# Altium integrated library TI Interface 8-Bit Line Transceiver.IntLib: 997 symbols (part 5 of 21)
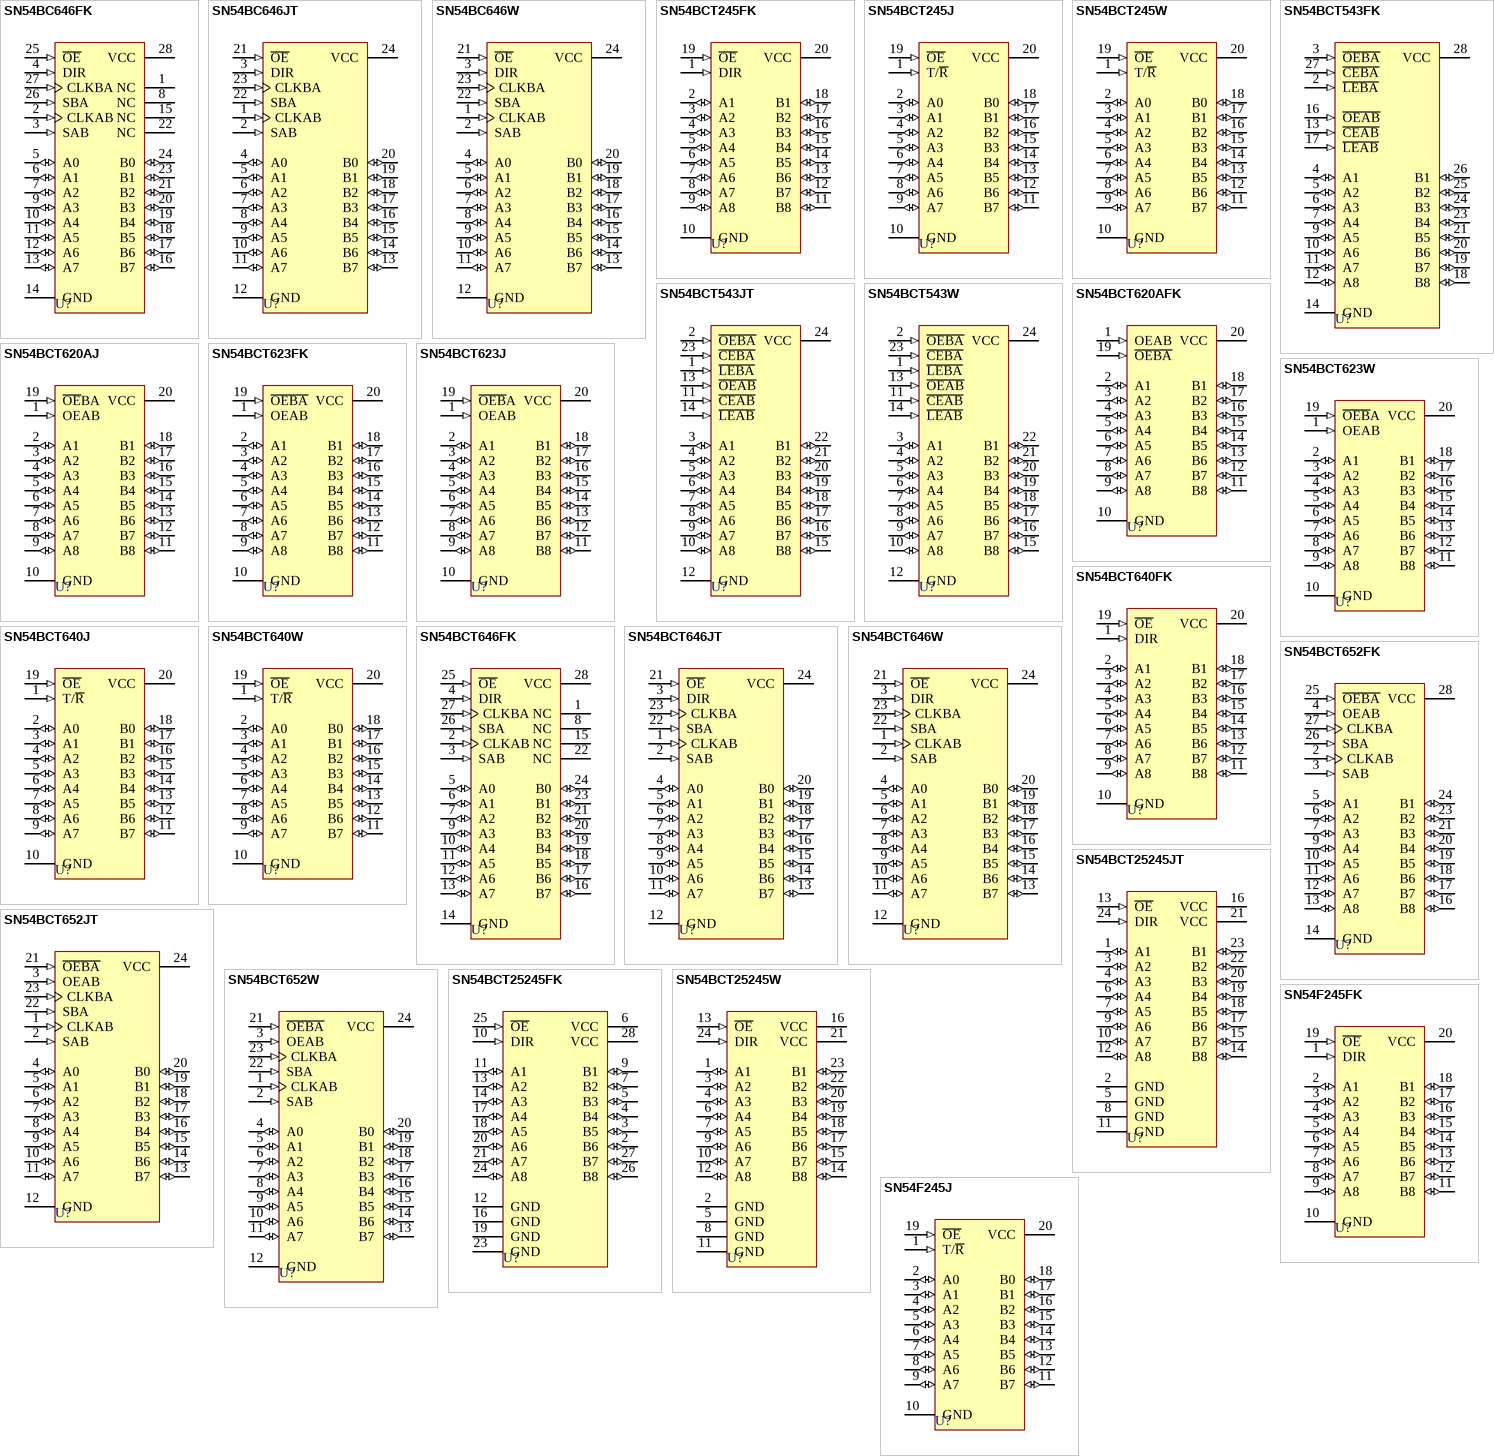
[diagram p35: symbols SN54BC646FK to SN54F245J]

## SN54BCT652FK
designator U?
Octal Bus Transceiver and Register with 3-State Outputs; Note: Pins 1, 8, 15 and 22 are not connected; Published: 8-Jun-2000; LatestRevisionDate: 17-Jul-2002; LatestRevisionNote: Re-released for DXP Platform.; DatasheetVersion: Nov-1993; PackageVersion: 1998; PackageReference: FK028; Publisher: Altium Limited; PackageDescription: Leadless Chip Carrier; 28 Terminals; Body 11.4 x 11.4 mm; ComponentLink1Description: Manufacturer Link; ComponentLink1URL: http://www.ti.com/
footprint FK028 (Leadless Chip Carrier; 28 Terminals; Body 11.4 x 11.4 mm)
signal-integrity model SN54BCT652FK
pins: 2 CLKAB (in), 3 SAB (in), 4 OEAB (in), 5 A1 (io), 6 A2 (io), 7 A3 (io), 9 A4 (io), 10 A5 (io), 11 A6 (io), 12 A7 (io), 13 A8 (io), 14 GND (power), 16 B8 (io), 17 B7 (io), 18 B6 (io), 19 B5 (io), 20 B4 (io), 21 B3 (io), 23 B2 (io), 24 B1 (io), 25 ~{OEBA} (in), 26 SBA (in), 27 CLKBA (in), 28 VCC (power)

## SN54BCT652JT
designator U?
Octal Bus Transceiver and Register with 3-State Outputs; Published: 8-Jun-2000; LatestRevisionDate: 04-Mar-2005; LatestRevisionNote: Stylized 3D Model Added.; DatasheetVersion: Nov-1993; PackageVersion: Jan-1997; PackageReference: JT024; Publisher: Altium Limited; PackageDescription: DIP; 24 Leads; Row Spacing 7.62 mm; Pitch 2.54 mm; Code_JEDEC: MS-001-AF; ComponentLink1Description: Manufacturer Link; ComponentLink1URL: http://www.ti.com/
footprint JT024 (DIP; 24 Leads; Row Spacing 7.62 mm; Pitch 2.54 mm)
3D model JT024 (DIP; 24 Leads; Row Spacing 7.62 mm; Pitch 2.54 mm)
signal-integrity model SN54BCT652JT
pins: 1 CLKAB (in), 2 SAB (in), 3 OEAB (in), 4 A0 (io), 5 A1 (io), 6 A2 (io), 7 A3 (io), 8 A4 (io), 9 A5 (io), 10 A6 (io), 11 A7 (io), 12 GND (power), 13 B7 (io), 14 B6 (io), 15 B5 (io), 16 B4 (io), 17 B3 (io), 18 B2 (io), 19 B1 (io), 20 B0 (io), 21 ~{OEBA} (in), 22 SBA (in), 23 CLKBA (in), 24 VCC (power)

## SN54BCT652W
designator U?
Octal Bus Transceiver and Register with 3-State Outputs; Published: 8-Jun-2000; LatestRevisionDate: 04-Mar-2005; LatestRevisionNote: Stylized 3D Model Added.; DatasheetVersion: Nov-1993; PackageVersion: Oct-1994; PackageReference: W024; Publisher: Altium Limited; PackageDescription: DFP; 24 Leads; Body 16.3 x 9.5 mm (LxW max); Pitch 1.27 mm; Code_JEDEC: MO-070-AD; ComponentLink1Description: Manufacturer Link; ComponentLink1URL: http://www.ti.com/
footprint W024 (DFP; 24 Leads; Body 16.3 x 9.5 mm (LxW max); Pitch 1.27 mm)
3D model W024 (DFP; 24 Leads; Body 16.3 x 9.5 mm (LxW max); Pitch 1.27 mm)
signal-integrity model SN54BCT652W
pins: 1 CLKAB (in), 2 SAB (in), 3 OEAB (in), 4 A0 (io), 5 A1 (io), 6 A2 (io), 7 A3 (io), 8 A4 (io), 9 A5 (io), 10 A6 (io), 11 A7 (io), 12 GND (power), 13 B7 (io), 14 B6 (io), 15 B5 (io), 16 B4 (io), 17 B3 (io), 18 B2 (io), 19 B1 (io), 20 B0 (io), 21 ~{OEBA} (in), 22 SBA (in), 23 CLKBA (in), 24 VCC (power)

## SN54BCT25245FK
designator U?
25-Ohm Octal Bus Transceiver with 3-State Outputs; Note: Pins 1, 8, 15 and 22 are not connected; Published: 8-Jun-2000; LatestRevisionDate: 17-Jul-2002; LatestRevisionNote: Re-released for DXP Platform.; DatasheetVersion: Apr-1994; PackageVersion: 1998; PackageReference: FK028; Publisher: Altium Limited; PackageDescription: Leadless Chip Carrier; 28 Terminals; Body 11.4 x 11.4 mm; ComponentLink1Description: Manufacturer Link; ComponentLink1URL: http://www.ti.com/
footprint FK028 (Leadless Chip Carrier; 28 Terminals; Body 11.4 x 11.4 mm)
signal-integrity model SN54BCT25245FK
pins: 2 B6 (io), 3 B5 (io), 4 B4 (io), 5 B3 (io), 6 VCC (power), 7 B2 (io), 9 B1 (io), 10 DIR (in), 11 A1 (io), 12 GND (power), 13 A2 (io), 14 A3 (io), 16 GND (power), 17 A4 (io), 18 A5 (io), 19 GND (power), 20 A6 (io), 21 A7 (io), 23 GND (power), 24 A8 (io), 25 ~{OE} (in), 26 B8 (io), 27 B7 (io), 28 VCC (power)

## SN54BCT25245JT
designator U?
25-Ohm Octal Bus Transceiver with 3-State Outputs; Published: 8-Jun-2000; LatestRevisionDate: 04-Mar-2005; LatestRevisionNote: Stylized 3D Model Added.; DatasheetVersion: Apr-1994; PackageVersion: Jan-1997; PackageReference: JT024; Publisher: Altium Limited; PackageDescription: DIP; 24 Leads; Row Spacing 7.62 mm; Pitch 2.54 mm; Code_JEDEC: MS-001-AF; ComponentLink1Description: Manufacturer Link; ComponentLink1URL: http://www.ti.com/
footprint JT024 (DIP; 24 Leads; Row Spacing 7.62 mm; Pitch 2.54 mm)
3D model JT024 (DIP; 24 Leads; Row Spacing 7.62 mm; Pitch 2.54 mm)
signal-integrity model SN54BCT25245JT
pins: 1 A1 (io), 2 GND (power), 3 A2 (io), 4 A3 (io), 5 GND (power), 6 A4 (io), 7 A5 (io), 8 GND (power), 9 A6 (io), 10 A7 (io), 11 GND (power), 12 A8 (io), 13 ~{OE} (in), 14 B8 (io), 15 B7 (io), 16 VCC (power), 17 B6 (io), 18 B5 (io), 19 B4 (io), 20 B3 (io), 21 VCC (power), 22 B2 (io), 23 B1 (io), 24 DIR (in)

## SN54BCT25245W
designator U?
25-Ohm Octal Bus Transceiver with 3-State Outputs; Published: 8-Jun-2000; LatestRevisionDate: 04-Mar-2005; LatestRevisionNote: Stylized 3D Model Added.; DatasheetVersion: Apr-1994; PackageVersion: Oct-1994; PackageReference: W024; Publisher: Altium Limited; PackageDescription: DFP; 24 Leads; Body 16.3 x 9.5 mm (LxW max); Pitch 1.27 mm; Code_JEDEC: MO-070-AD; ComponentLink1Description: Manufacturer Link; ComponentLink1URL: http://www.ti.com/
footprint W024 (DFP; 24 Leads; Body 16.3 x 9.5 mm (LxW max); Pitch 1.27 mm)
3D model W024 (DFP; 24 Leads; Body 16.3 x 9.5 mm (LxW max); Pitch 1.27 mm)
signal-integrity model SN54BCT25245W
pins: 1 A1 (io), 2 GND (power), 3 A2 (io), 4 A3 (io), 5 GND (power), 6 A4 (io), 7 A5 (io), 8 GND (power), 9 A6 (io), 10 A7 (io), 11 GND (power), 12 A8 (io), 13 ~{OE} (in), 14 B8 (io), 15 B7 (io), 16 VCC (power), 17 B6 (io), 18 B5 (io), 19 B4 (io), 20 B3 (io), 21 VCC (power), 22 B2 (io), 23 B1 (io), 24 DIR (in)

## SN54F245FK
designator U?
Octal Bus Transceiver with 3-State Outputs; Published: 8-Jun-2000; LatestRevisionDate: 17-Jul-2002; LatestRevisionNote: Re-released for DXP Platform.; DatasheetVersion: Oct-1993; PackageVersion: 1998; PackageReference: FK020; Publisher: Altium Limited; PackageDescription: Leadless Chip Carrier; 20 Terminals; Body 8.9 x 8.9 mm; ComponentLink1Description: Manufacturer Link; ComponentLink1URL: http://www.ti.com/
footprint FK020 (Leadless Chip Carrier; 20 Terminals; Body 8.9 x 8.9 mm)
simulation model SN74F245 (SIMCODE)
signal-integrity model SN54F245FK
pins: 1 DIR (in), 2 A1 (io), 3 A2 (io), 4 A3 (io), 5 A4 (io), 6 A5 (io), 7 A6 (io), 8 A7 (io), 9 A8 (io), 10 GND (power), 11 B8 (io), 12 B7 (io), 13 B6 (io), 14 B5 (io), 15 B4 (io), 16 B3 (io), 17 B2 (io), 18 B1 (io), 19 ~{OE} (in), 20 VCC (power)

## SN54F245J
designator U?
Octal Bus Transceiver with 3-State Outputs; Published: 8-Jun-2000; LatestRevisionDate: 04-Mar-2005; LatestRevisionNote: Stylized 3D Model Added.; DatasheetVersion: Oct-1993; PackageVersion: Jun-1999; PackageReference: J020; Publisher: Altium Limited; PackageDescription: DIP; 20 Leads; Row Spacing 7.62 mm; Pitch 2.54 mm; ComponentLink1Description: Manufacturer Link; ComponentLink1URL: http://www.ti.com/; ComponentLink2Description: Datasheet; ComponentLink2URL: http://www-s.ti.com/sc/ds/sn54f245.pdf
footprint J020 (DIP; 20 Leads; Row Spacing 7.62 mm; Pitch 2.54 mm)
3D model J020 (DIP; 20 Leads; Row Spacing 7.62 mm; Pitch 2.54 mm)
simulation model SN74F245 (SIMCODE)
signal-integrity model SN54F245J
pins: 1 T/~{R} (in), 2 A0 (io), 3 A1 (io), 4 A2 (io), 5 A3 (io), 6 A4 (io), 7 A5 (io), 8 A6 (io), 9 A7 (io), 10 GND (power), 11 B7 (io), 12 B6 (io), 13 B5 (io), 14 B4 (io), 15 B3 (io), 16 B2 (io), 17 B1 (io), 18 B0 (io), 19 ~{OE} (in), 20 VCC (power)

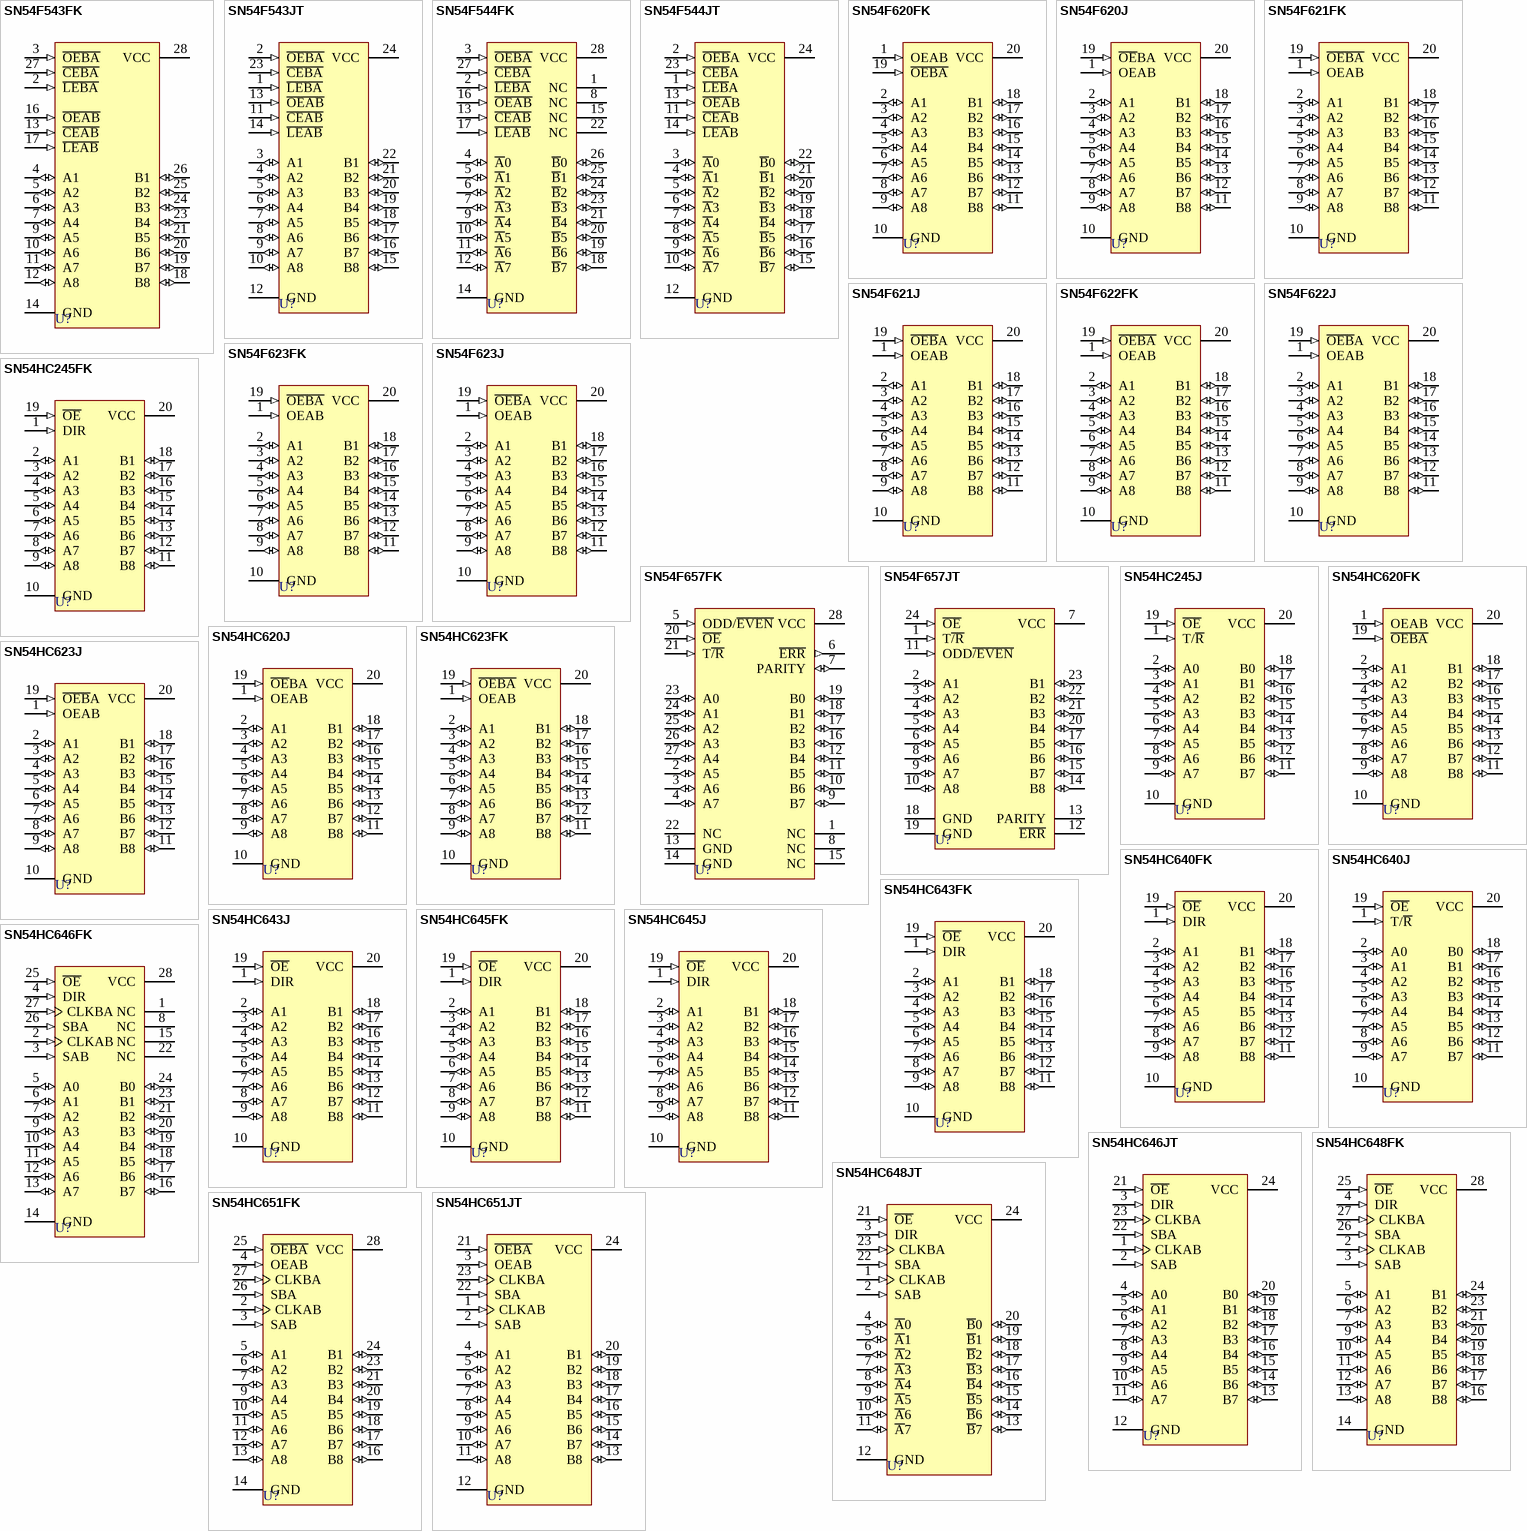
[diagram p7: symbols SN54F543FK to SN54HC651JT]

## SN54F543FK
designator U?
Octal Registered Transceiver with 3-State Outputs; Note: Pins 1, 8, 15 and 22 are not connected; Published: 8-Jun-2000; LatestRevisionDate: 17-Jul-2002; LatestRevisionNote: Re-released for DXP Platform.; DatasheetVersion: Jan-1989; PackageVersion: 1998; PackageReference: FK028D; Publisher: Altium Limited; PackageDescription: Leadless Chip Carrier; 28 Terminals; Body 11.4 x 11.4 mm; ComponentLink1Description: Manufacturer Link; ComponentLink1URL: http://www.ti.com/
footprint FK028D (Leadless Chip Carrier; 28 Terminals; Body 11.4 x 11.4 mm)
signal-integrity model SN54F543FK
pins: 2 ~{LEBA} (in), 3 ~{OEBA} (in), 4 A1 (io), 5 A2 (io), 6 A3 (io), 7 A4 (io), 9 A5 (io), 10 A6 (io), 11 A7 (io), 12 A8 (io), 13 ~{CEAB} (in), 14 GND (power), 16 ~{OEAB} (in), 17 ~{LEAB} (in), 18 B8 (io), 19 B7 (io), 20 B6 (io), 21 B5 (io), 23 B4 (io), 24 B3 (io), 25 B2 (io), 26 B1 (io), 27 ~{CEBA} (in), 28 VCC (power)

## SN54F543JT
designator U?
Octal Registered Transceiver with 3-State Outputs; Published: 8-Jun-2000; LatestRevisionDate: 04-Mar-2005; LatestRevisionNote: Stylized 3D Model Added.; DatasheetVersion: Jan-1989; PackageVersion: Jan-1997; PackageReference: JT024D; Publisher: Altium Limited; PackageDescription: DIP; 24 Leads; Row Spacing 7.62 mm; Pitch 2.54 mm; Code_JEDEC: MS-001-AF; ComponentLink1Description: Manufacturer Link; ComponentLink1URL: http://www.ti.com/
footprint JT024D (DIP; 24 Leads; Row Spacing 7.62 mm; Pitch 2.54 mm)
3D model JT024 (DIP; 24 Leads; Row Spacing 7.62 mm; Pitch 2.54 mm)
signal-integrity model SN54F543JT
pins: 1 ~{LEBA} (in), 2 ~{OEBA} (in), 3 A1 (io), 4 A2 (io), 5 A3 (io), 6 A4 (io), 7 A5 (io), 8 A6 (io), 9 A7 (io), 10 A8 (io), 11 ~{CEAB} (in), 12 GND (power), 13 ~{OEAB} (in), 14 ~{LEAB} (in), 15 B8 (io), 16 B7 (io), 17 B6 (io), 18 B5 (io), 19 B4 (io), 20 B3 (io), 21 B2 (io), 22 B1 (io), 23 ~{CEBA} (in), 24 VCC (power)

## SN54F544FK
designator U?
Octal Registered Transceiver with 3-State Outputs; Note: Pins 1, 8, 15 and 22 are not connected; ComponentAvailability: Obsolete; Published: 8-Jun-2000; LatestRevisionDate: 17-Jul-2002; LatestRevisionNote: Re-released for DXP Platform.; DatasheetVersion: Jan-1989; PackageVersion: 1998; PackageReference: FK028D; Publisher: Altium Limited; PackageDescription: Leadless Chip Carrier; 28 Terminals; Body 11.4 x 11.4 mm; ComponentLink1Description: Manufacturer Link; ComponentLink1URL: http://www.ti.com/; ComponentLink2Description: Discontinuation Notice; ComponentLink2URL: http://focus.ti.com/pdfs/mltry/obsolete.pdf
footprint FK028D (Leadless Chip Carrier; 28 Terminals; Body 11.4 x 11.4 mm)
signal-integrity model SN54F544FK
pins: 1 NC, 2 ~{LEBA} (in), 3 ~{OEBA} (in), 4 ~{A}0 (io), 5 ~{A}1 (io), 6 ~{A}2 (io), 7 ~{A}3 (io), 8 NC, 9 ~{A}4 (io), 10 ~{A}5 (io), 11 ~{A}6 (io), 12 ~{A}7 (io), 13 ~{CEAB} (in), 14 GND (power), 15 NC, 16 ~{OEAB} (in), 17 ~{LEAB} (in), 18 ~{B}7 (io), 19 ~{B}6 (io), 20 ~{B}5 (io), 21 ~{B}4 (io), 22 NC, 23 ~{B}3 (io), 24 ~{B}2 (io), 25 ~{B}1 (io), 26 ~{B}0 (io), 27 ~{CEBA} (in), 28 VCC (power)

## SN54F544JT
designator U?
Octal Registered Transceiver with 3-State Outputs; ComponentAvailability: Obsolete; Published: 8-Jun-2000; LatestRevisionDate: 04-Mar-2005; LatestRevisionNote: Stylized 3D Model Added.; DatasheetVersion: Jan-1989; PackageVersion: Jan-1997; PackageReference: JT024D; Publisher: Altium Limited; PackageDescription: DIP; 24 Leads; Row Spacing 7.62 mm; Pitch 2.54 mm; Code_JEDEC: MS-001-AF; ComponentLink1Description: Manufacturer Link; ComponentLink1URL: http://www.ti.com/; ComponentLink2Description: Discontinuation Notice; ComponentLink2URL: http://focus.ti.com/pdfs/mltry/obsolete.pdf
footprint JT024D (DIP; 24 Leads; Row Spacing 7.62 mm; Pitch 2.54 mm)
3D model JT024 (DIP; 24 Leads; Row Spacing 7.62 mm; Pitch 2.54 mm)
signal-integrity model SN54F544JT
pins: 1 ~{LEB}A (in), 2 ~{OEB}A (in), 3 ~{A}0 (io), 4 ~{A}1 (io), 5 ~{A}2 (io), 6 ~{A}3 (io), 7 ~{A}4 (io), 8 ~{A}5 (io), 9 ~{A}6 (io), 10 ~{A}7 (io), 11 ~{CEA}B (in), 12 GND (power), 13 ~{OEA}B (in), 14 ~{LEA}B (in), 15 ~{B}7 (io), 16 ~{B}6 (io), 17 ~{B}5 (io), 18 ~{B}4 (io), 19 ~{B}3 (io), 20 ~{B}2 (io), 21 ~{B}1 (io), 22 ~{B}0 (io), 23 ~{CEB}A (in), 24 VCC (power)

## SN54F620FK
designator U?
Octal Bus transceiver; ComponentAvailability: Obsolete; Published: 8-Jun-2000; LatestRevisionDate: 17-Jul-2002; LatestRevisionNote: Re-released for DXP Platform.; DatasheetVersion: Jan-1989; PackageVersion: 1998; PackageReference: FK020D; Publisher: Altium Limited; PackageDescription: Leadless Chip Carrier; 20 Terminals; Body 8.9 x 8.9 mm; ComponentLink1Description: Manufacturer Link; ComponentLink1URL: http://www.ti.com/; ComponentLink2Description: Discontinuation Notice; ComponentLink2URL: http://focus.ti.com/pdfs/mltry/obsolete.pdf
footprint FK020D (Leadless Chip Carrier; 20 Terminals; Body 8.9 x 8.9 mm)
signal-integrity model SN54F620FK
pins: 1 OEAB (in), 2 A1 (io), 3 A2 (io), 4 A3 (io), 5 A4 (io), 6 A5 (io), 7 A6 (io), 8 A7 (io), 9 A8 (io), 10 GND (power), 11 B8 (io), 12 B7 (io), 13 B6 (io), 14 B5 (io), 15 B4 (io), 16 B3 (io), 17 B2 (io), 18 B1 (io), 19 ~{OEBA} (in), 20 VCC (power)

## SN54F620J
designator U?
Octal Bus transceiver; ComponentAvailability: Obsolete; Published: 8-Jun-2000; LatestRevisionDate: 04-Mar-2005; LatestRevisionNote: Stylized 3D Model Added.; DatasheetVersion: Jan-1989; PackageVersion: Jun-1999; PackageReference: J020D; Publisher: Altium Limited; PackageDescription: DIP; 20 Leads; Row Spacing 7.62 mm; Pitch 2.54 mm; ComponentLink1Description: Manufacturer Link; ComponentLink1URL: http://www.ti.com/; ComponentLink2Description: Discontinuation Notice; ComponentLink2URL: http://focus.ti.com/pdfs/mltry/obsolete.pdf
footprint J020D (DIP; 20 Leads; Row Spacing 7.62 mm; Pitch 2.54 mm)
3D model J020 (DIP; 20 Leads; Row Spacing 7.62 mm; Pitch 2.54 mm)
signal-integrity model SN54F620J
pins: 1 OEAB (in), 2 A1 (io), 3 A2 (io), 4 A3 (io), 5 A4 (io), 6 A5 (io), 7 A6 (io), 8 A7 (io), 9 A8 (io), 10 GND (power), 11 B8 (io), 12 B7 (io), 13 B6 (io), 14 B5 (io), 15 B4 (io), 16 B3 (io), 17 B2 (io), 18 B1 (io), 19 ~{OE}BA (in), 20 VCC (power)

## SN54F621FK
designator U?
Octal Bus Transceiver with Open-Collector Outputs; Published: 8-Jun-2000; LatestRevisionDate: 17-Jul-2002; LatestRevisionNote: Re-released for DXP Platform.; DatasheetVersion: Oct-1993; PackageVersion: 1998; PackageReference: FK020; Publisher: Altium Limited; PackageDescription: Leadless Chip Carrier; 20 Terminals; Body 8.9 x 8.9 mm; ComponentLink1Description: Manufacturer Link; ComponentLink1URL: http://www.ti.com/
footprint FK020 (Leadless Chip Carrier; 20 Terminals; Body 8.9 x 8.9 mm)
signal-integrity model SN54F621FK
pins: 1 OEAB (in), 2 A1 (io), 3 A2 (io), 4 A3 (io), 5 A4 (io), 6 A5 (io), 7 A6 (io), 8 A7 (io), 9 A8 (io), 10 GND (power), 11 B8 (io), 12 B7 (io), 13 B6 (io), 14 B5 (io), 15 B4 (io), 16 B3 (io), 17 B2 (io), 18 B1 (io), 19 ~{OEBA} (in), 20 VCC (power)

## SN54F621J
designator U?
Octal Bus Transceiver with Open-Collector Outputs; ComponentAvailability: Obsolete; Published: 8-Jun-2000; LatestRevisionDate: 04-Mar-2005; LatestRevisionNote: Stylized 3D Model Added.; DatasheetVersion: Oct-1993; PackageVersion: Jun-1999; PackageReference: J020; Publisher: Altium Limited; PackageDescription: DIP; 20 Leads; Row Spacing 7.62 mm; Pitch 2.54 mm; ComponentLink1Description: Manufacturer Link; ComponentLink1URL: http://www.ti.com/; ComponentLink2Description: Discontinuation Notice; ComponentLink2URL: http://focus.ti.com/pdfs/mltry/obsolete.pdf
footprint J020 (DIP; 20 Leads; Row Spacing 7.62 mm; Pitch 2.54 mm)
3D model J020 (DIP; 20 Leads; Row Spacing 7.62 mm; Pitch 2.54 mm)
signal-integrity model SN54F621J
pins: 1 OEAB (in), 2 A1 (io), 3 A2 (io), 4 A3 (io), 5 A4 (io), 6 A5 (io), 7 A6 (io), 8 A7 (io), 9 A8 (io), 10 GND (power), 11 B8 (io), 12 B7 (io), 13 B6 (io), 14 B5 (io), 15 B4 (io), 16 B3 (io), 17 B2 (io), 18 B1 (io), 19 ~{OEB}A (in), 20 VCC (power)

## SN54F622FK
designator U?
Octal Bus transceiver; Published: 8-Jun-2000; LatestRevisionDate: 17-Jul-2002; LatestRevisionNote: Re-released for DXP Platform.; DatasheetVersion: Jan-1989; PackageVersion: 1998; PackageReference: FK020D; Publisher: Altium Limited; PackageDescription: Leadless Chip Carrier; 20 Terminals; Body 8.9 x 8.9 mm; ComponentLink1Description: Manufacturer Link; ComponentLink1URL: http://www.ti.com/
footprint FK020D (Leadless Chip Carrier; 20 Terminals; Body 8.9 x 8.9 mm)
signal-integrity model SN54F622FK
pins: 1 OEAB (in), 2 A1 (io), 3 A2 (io), 4 A3 (io), 5 A4 (io), 6 A5 (io), 7 A6 (io), 8 A7 (io), 9 A8 (io), 10 GND (power), 11 B8 (io), 12 B7 (io), 13 B6 (io), 14 B5 (io), 15 B4 (io), 16 B3 (io), 17 B2 (io), 18 B1 (io), 19 ~{OEBA} (in), 20 VCC (power)

## SN54F622J
designator U?
Octal Bus transceiver; Published: 8-Jun-2000; LatestRevisionDate: 04-Mar-2005; LatestRevisionNote: Stylized 3D Model Added.; DatasheetVersion: Jan-1989; PackageVersion: Jun-1999; PackageReference: J020D; Publisher: Altium Limited; PackageDescription: DIP; 20 Leads; Row Spacing 7.62 mm; Pitch 2.54 mm; ComponentLink1Description: Manufacturer Link; ComponentLink1URL: http://www.ti.com/
footprint J020D (DIP; 20 Leads; Row Spacing 7.62 mm; Pitch 2.54 mm)
3D model J020 (DIP; 20 Leads; Row Spacing 7.62 mm; Pitch 2.54 mm)
signal-integrity model SN54F622J
pins: 1 OEAB (in), 2 A1 (io), 3 A2 (io), 4 A3 (io), 5 A4 (io), 6 A5 (io), 7 A6 (io), 8 A7 (io), 9 A8 (io), 10 GND (power), 11 B8 (io), 12 B7 (io), 13 B6 (io), 14 B5 (io), 15 B4 (io), 16 B3 (io), 17 B2 (io), 18 B1 (io), 19 ~{OEB}A (in), 20 VCC (power)

## SN54F623FK
designator U?
Octal Bus Transceiver with 3-State Outputs; Published: 8-Jun-2000; LatestRevisionDate: 17-Jul-2002; LatestRevisionNote: Re-released for DXP Platform.; DatasheetVersion: Oct-1993; PackageVersion: 1998; PackageReference: FK020; Publisher: Altium Limited; PackageDescription: Leadless Chip Carrier; 20 Terminals; Body 8.9 x 8.9 mm; ComponentLink1Description: Manufacturer Link; ComponentLink1URL: http://www.ti.com/
footprint FK020 (Leadless Chip Carrier; 20 Terminals; Body 8.9 x 8.9 mm)
signal-integrity model SN54F623FK
pins: 1 OEAB (in), 2 A1 (io), 3 A2 (io), 4 A3 (io), 5 A4 (io), 6 A5 (io), 7 A6 (io), 8 A7 (io), 9 A8 (io), 10 GND (power), 11 B8 (io), 12 B7 (io), 13 B6 (io), 14 B5 (io), 15 B4 (io), 16 B3 (io), 17 B2 (io), 18 B1 (io), 19 ~{OEBA} (in), 20 VCC (power)

## SN54F623J
designator U?
Octal Bus Transceiver with 3-State Outputs; ComponentAvailability: Obsolete; Published: 8-Jun-2000; LatestRevisionDate: 04-Mar-2005; LatestRevisionNote: Stylized 3D Model Added.; DatasheetVersion: Oct-1993; PackageVersion: Jun-1999; PackageReference: J020; Publisher: Altium Limited; PackageDescription: DIP; 20 Leads; Row Spacing 7.62 mm; Pitch 2.54 mm; ComponentLink1Description: Manufacturer Link; ComponentLink1URL: http://www.ti.com/; ComponentLink2Description: Datasheet; ComponentLink2URL: http://www-s.ti.com/sc/ds/sn74f623.pdf
footprint J020 (DIP; 20 Leads; Row Spacing 7.62 mm; Pitch 2.54 mm)
3D model J020 (DIP; 20 Leads; Row Spacing 7.62 mm; Pitch 2.54 mm)
signal-integrity model SN54F623J
pins: 1 OEAB (in), 2 A1 (io), 3 A2 (io), 4 A3 (io), 5 A4 (io), 6 A5 (io), 7 A6 (io), 8 A7 (io), 9 A8 (io), 10 GND (power), 11 B8 (io), 12 B7 (io), 13 B6 (io), 14 B5 (io), 15 B4 (io), 16 B3 (io), 17 B2 (io), 18 B1 (io), 19 ~{OEB}A (in), 20 VCC (power)

## SN54F657FK
designator U?
Octal Transceiver with 8-Bit Parity Generator/Checker and 3-State Outputs; Note: Pins 1, 8, 15 and 22 are not connected; Published: 8-Jun-2000; LatestRevisionDate: 17-Jul-2002; LatestRevisionNote: Re-released for DXP Platform.; DatasheetVersion: Jan-1989; PackageVersion: 1998; PackageReference: FK028D; Publisher: Altium Limited; PackageDescription: Leadless Chip Carrier; 28 Terminals; Body 11.4 x 11.4 mm; ComponentLink1Description: Manufacturer Link; ComponentLink1URL: http://www.ti.com/
footprint FK028D (Leadless Chip Carrier; 28 Terminals; Body 11.4 x 11.4 mm)
signal-integrity model SN54F657FK
pins: 1 NC, 2 A5 (io), 3 A6 (io), 4 A7 (io), 5 ODD/~{EVEN} (in), 6 ~{ERR} (out), 7 PARITY (io), 8 NC, 9 B7 (io), 10 B6 (io), 11 B5 (io), 12 B4 (io), 13 GND (power), 14 GND (power), 15 NC, 16 B3 (io), 17 B2 (io), 18 B1 (io), 19 B0 (io), 20 ~{OE} (in), 21 T~{/R} (in), 22 NC, 23 A0 (io), 24 A1 (io), 25 A2 (io), 26 A3 (io), 27 A4 (io), 28 VCC (power)

## SN54F657JT
designator U?
Octal Transceiver with 8-Bit Parity Generator/Checker and 3-State Outputs; Published: 8-Jun-2000; LatestRevisionDate: 04-Mar-2005; LatestRevisionNote: Stylized 3D Model Added.; DatasheetVersion: Jan-1989; PackageVersion: Jan-1997; PackageReference: JT024D; Publisher: Altium Limited; PackageDescription: DIP; 24 Leads; Row Spacing 7.62 mm; Pitch 2.54 mm; Code_JEDEC: MS-001-AF; ComponentLink1Description: Manufacturer Link; ComponentLink1URL: http://www.ti.com/
footprint JT024D (DIP; 24 Leads; Row Spacing 7.62 mm; Pitch 2.54 mm)
3D model JT024 (DIP; 24 Leads; Row Spacing 7.62 mm; Pitch 2.54 mm)
signal-integrity model SN54F657JT
pins: 1 T~{/R} (in), 2 A1 (io), 3 A2 (io), 4 A3 (io), 5 A4 (io), 6 A5 (io), 7 VCC (power), 8 A6 (io), 9 A7 (io), 10 A8 (io), 11 ODD~{/EVEN} (in), 12 ~{ERR} (hiz), 13 PARITY (hiz), 14 B8 (io), 15 B7 (io), 16 B6 (io), 17 B5 (io), 18 GND (power), 19 GND (power), 20 B4 (io), 21 B3 (io), 22 B2 (io), 23 B1 (io), 24 ~{OE} (in)

## SN54HC245FK
designator U?
Octal Bus Transceiver with 3-State Outputs; Published: 8-Jun-2000; LatestRevisionDate: 17-Jul-2002; LatestRevisionNote: Re-released for DXP Platform.; DatasheetVersion: May-1997; PackageVersion: 1998; PackageReference: FK020; Publisher: Altium Limited; PackageDescription: Leadless Chip Carrier; 20 Terminals; Body 8.9 x 8.9 mm; ComponentLink1Description: Manufacturer Link; ComponentLink1URL: http://www.ti.com/
footprint FK020 (Leadless Chip Carrier; 20 Terminals; Body 8.9 x 8.9 mm)
signal-integrity model SN54HC245FK
pins: 1 DIR (in), 2 A1 (io), 3 A2 (io), 4 A3 (io), 5 A4 (io), 6 A5 (io), 7 A6 (io), 8 A7 (io), 9 A8 (io), 10 GND (power), 11 B8 (io), 12 B7 (io), 13 B6 (io), 14 B5 (io), 15 B4 (io), 16 B3 (io), 17 B2 (io), 18 B1 (io), 19 ~{OE} (in), 20 VCC (power)

## SN54HC245J
designator U?
Octal Bus Transceiver with 3-State Outputs; Published: 8-Jun-2000; LatestRevisionDate: 04-Mar-2005; LatestRevisionNote: Stylized 3D Model Added.; DatasheetVersion: May-1997; PackageVersion: Jun-1999; PackageReference: J020; Publisher: Altium Limited; PackageDescription: DIP; 20 Leads; Row Spacing 7.62 mm; Pitch 2.54 mm; ComponentLink1Description: Manufacturer Link; ComponentLink1URL: http://www.ti.com/; ComponentLink2Description: Datasheet; ComponentLink2URL: http://www-s.ti.com/sc/ds/sn74hc245.pdf
footprint J020 (DIP; 20 Leads; Row Spacing 7.62 mm; Pitch 2.54 mm)
3D model J020 (DIP; 20 Leads; Row Spacing 7.62 mm; Pitch 2.54 mm)
signal-integrity model SN54HC245J
pins: 1 T/~{R} (in), 2 A0 (io), 3 A1 (io), 4 A2 (io), 5 A3 (io), 6 A4 (io), 7 A5 (io), 8 A6 (io), 9 A7 (io), 10 GND (power), 11 B7 (io), 12 B6 (io), 13 B5 (io), 14 B4 (io), 15 B3 (io), 16 B2 (io), 17 B1 (io), 18 B0 (io), 19 ~{OE} (in), 20 VCC (power)

## SN54HC620FK
designator U?
Octal Bus Transceiver with 3-State Outputs; ComponentAvailability: Obsolete; Published: 8-Jun-2000; LatestRevisionDate: 17-Jul-2002; LatestRevisionNote: Re-released for DXP Platform.; DatasheetVersion: Sep-1987; PackageVersion: 1998; PackageReference: FK020D; Publisher: Altium Limited; PackageDescription: Leadless Chip Carrier; 20 Terminals; Body 8.9 x 8.9 mm; ComponentLink1Description: Manufacturer Link; ComponentLink1URL: http://www.ti.com/; ComponentLink2Description: Discontinuation Notice; ComponentLink2URL: http://focus.ti.com/pdfs/mltry/obsolete.pdf
footprint FK020D (Leadless Chip Carrier; 20 Terminals; Body 8.9 x 8.9 mm)
signal-integrity model SN54HC620FK
pins: 1 OEAB (in), 2 A1 (io), 3 A2 (io), 4 A3 (io), 5 A4 (io), 6 A5 (io), 7 A6 (io), 8 A7 (io), 9 A8 (io), 10 GND (power), 11 B8 (io), 12 B7 (io), 13 B6 (io), 14 B5 (io), 15 B4 (io), 16 B3 (io), 17 B2 (io), 18 B1 (io), 19 ~{OEBA} (in), 20 VCC (power)

## SN54HC620J
designator U?
Octal Bus Transceiver with 3-State Outputs; ComponentAvailability: Obsolete; Published: 8-Jun-2000; LatestRevisionDate: 04-Mar-2005; LatestRevisionNote: Stylized 3D Model Added.; DatasheetVersion: Sep-1987; PackageVersion: Jun-1999; PackageReference: J020D; Publisher: Altium Limited; PackageDescription: DIP; 20 Leads; Row Spacing 7.62 mm; Pitch 2.54 mm; ComponentLink1Description: Manufacturer Link; ComponentLink1URL: http://www.ti.com/; ComponentLink2Description: Discontinuation Notice; ComponentLink2URL: http://focus.ti.com/pdfs/mltry/obsolete.pdf
footprint J020D (DIP; 20 Leads; Row Spacing 7.62 mm; Pitch 2.54 mm)
3D model J020 (DIP; 20 Leads; Row Spacing 7.62 mm; Pitch 2.54 mm)
signal-integrity model SN54HC620J
pins: 1 OEAB (in), 2 A1 (io), 3 A2 (io), 4 A3 (io), 5 A4 (io), 6 A5 (io), 7 A6 (io), 8 A7 (io), 9 A8 (io), 10 GND (power), 11 B8 (io), 12 B7 (io), 13 B6 (io), 14 B5 (io), 15 B4 (io), 16 B3 (io), 17 B2 (io), 18 B1 (io), 19 ~{OE}BA (in), 20 VCC (power)

## SN54HC623FK
designator U?
Octal Bus Transceiver with 3-State Outputs; Published: 8-Jun-2000; LatestRevisionDate: 17-Jul-2002; LatestRevisionNote: Re-released for DXP Platform.; DatasheetVersion: May-1997; PackageVersion: 1998; PackageReference: FK020; Publisher: Altium Limited; PackageDescription: Leadless Chip Carrier; 20 Terminals; Body 8.9 x 8.9 mm; ComponentLink1Description: Manufacturer Link; ComponentLink1URL: http://www.ti.com/
footprint FK020 (Leadless Chip Carrier; 20 Terminals; Body 8.9 x 8.9 mm)
signal-integrity model SN54HC623FK
pins: 1 OEAB (in), 2 A1 (io), 3 A2 (io), 4 A3 (io), 5 A4 (io), 6 A5 (io), 7 A6 (io), 8 A7 (io), 9 A8 (io), 10 GND (power), 11 B8 (io), 12 B7 (io), 13 B6 (io), 14 B5 (io), 15 B4 (io), 16 B3 (io), 17 B2 (io), 18 B1 (io), 19 ~{OEBA} (in), 20 VCC (power)

## SN54HC623J
designator U?
Octal Bus Transceiver with 3-State Outputs; Published: 8-Jun-2000; LatestRevisionDate: 04-Mar-2005; LatestRevisionNote: Stylized 3D Model Added.; DatasheetVersion: May-1997; PackageVersion: Jun-1999; PackageReference: J020; Publisher: Altium Limited; PackageDescription: DIP; 20 Leads; Row Spacing 7.62 mm; Pitch 2.54 mm; ComponentLink1Description: Manufacturer Link; ComponentLink1URL: http://www.ti.com/
footprint J020 (DIP; 20 Leads; Row Spacing 7.62 mm; Pitch 2.54 mm)
3D model J020 (DIP; 20 Leads; Row Spacing 7.62 mm; Pitch 2.54 mm)
signal-integrity model SN54HC623J
pins: 1 OEAB (in), 2 A1 (io), 3 A2 (io), 4 A3 (io), 5 A4 (io), 6 A5 (io), 7 A6 (io), 8 A7 (io), 9 A8 (io), 10 GND (power), 11 B8 (io), 12 B7 (io), 13 B6 (io), 14 B5 (io), 15 B4 (io), 16 B3 (io), 17 B2 (io), 18 B1 (io), 19 ~{OEB}A (in), 20 VCC (power)

## SN54HC640FK
designator U?
Octal Bus Transceiver with 3-State Outputs; Published: 8-Jun-2000; LatestRevisionDate: 17-Jul-2002; LatestRevisionNote: Re-released for DXP Platform.; DatasheetVersion: May-1997; PackageVersion: 1998; PackageReference: FK020; Publisher: Altium Limited; PackageDescription: Leadless Chip Carrier; 20 Terminals; Body 8.9 x 8.9 mm; ComponentLink1Description: Manufacturer Link; ComponentLink1URL: http://www.ti.com/
footprint FK020 (Leadless Chip Carrier; 20 Terminals; Body 8.9 x 8.9 mm)
signal-integrity model SN54HC640FK
pins: 1 DIR (in), 2 A1 (io), 3 A2 (io), 4 A3 (io), 5 A4 (io), 6 A5 (io), 7 A6 (io), 8 A7 (io), 9 A8 (io), 10 GND (power), 11 B8 (io), 12 B7 (io), 13 B6 (io), 14 B5 (io), 15 B4 (io), 16 B3 (io), 17 B2 (io), 18 B1 (io), 19 ~{OE} (in), 20 VCC (power)

## SN54HC640J
designator U?
Octal Bus Transceiver with 3-State Outputs; Published: 8-Jun-2000; LatestRevisionDate: 04-Mar-2005; LatestRevisionNote: Stylized 3D Model Added.; DatasheetVersion: May-1997; PackageVersion: Jun-1999; PackageReference: J020; Publisher: Altium Limited; PackageDescription: DIP; 20 Leads; Row Spacing 7.62 mm; Pitch 2.54 mm; ComponentLink1Description: Manufacturer Link; ComponentLink1URL: http://www.ti.com/; ComponentLink2Description: Datasheet; ComponentLink2URL: http://www-s.ti.com/sc/ds/sn74hc640.pdf
footprint J020 (DIP; 20 Leads; Row Spacing 7.62 mm; Pitch 2.54 mm)
3D model J020 (DIP; 20 Leads; Row Spacing 7.62 mm; Pitch 2.54 mm)
signal-integrity model SN54HC640J
pins: 1 T/~{R} (in), 2 A0 (io), 3 A1 (io), 4 A2 (io), 5 A3 (io), 6 A4 (io), 7 A5 (io), 8 A6 (io), 9 A7 (io), 10 GND (power), 11 B7 (io), 12 B6 (io), 13 B5 (io), 14 B4 (io), 15 B3 (io), 16 B2 (io), 17 B1 (io), 18 B0 (io), 19 ~{OE} (in), 20 VCC (power)

## SN54HC643FK
designator U?
Octal Bus Transceiver with 3-State Outputs; ComponentAvailability: Obsolete; Published: 8-Jun-2000; LatestRevisionDate: 17-Jul-2002; LatestRevisionNote: Re-released for DXP Platform.; DatasheetVersion: Jun-1989; PackageVersion: 1998; PackageReference: FK020D; Publisher: Altium Limited; PackageDescription: Leadless Chip Carrier; 20 Terminals; Body 8.9 x 8.9 mm; ComponentLink1Description: Manufacturer Link; ComponentLink1URL: http://www.ti.com/; ComponentLink2Description: Discontinuation Notice; ComponentLink2URL: http://focus.ti.com/pdfs/mltry/obsolete.pdf
footprint FK020D (Leadless Chip Carrier; 20 Terminals; Body 8.9 x 8.9 mm)
signal-integrity model SN54HC643FK
pins: 1 DIR (in), 2 A1 (io), 3 A2 (io), 4 A3 (io), 5 A4 (io), 6 A5 (io), 7 A6 (io), 8 A7 (io), 9 A8 (io), 10 GND (power), 11 B8 (io), 12 B7 (io), 13 B6 (io), 14 B5 (io), 15 B4 (io), 16 B3 (io), 17 B2 (io), 18 B1 (io), 19 ~{OE} (in), 20 VCC (power)

## SN54HC643J
designator U?
Octal Bus Transceiver with 3-State Outputs; ComponentAvailability: Obsolete; Published: 8-Jun-2000; LatestRevisionDate: 04-Mar-2005; LatestRevisionNote: Stylized 3D Model Added.; DatasheetVersion: Jun-1989; PackageVersion: Jun-1999; PackageReference: J020D; Publisher: Altium Limited; PackageDescription: DIP; 20 Leads; Row Spacing 7.62 mm; Pitch 2.54 mm; ComponentLink1Description: Manufacturer Link; ComponentLink1URL: http://www.ti.com/; ComponentLink2Description: Discontinuation Notice; ComponentLink2URL: http://focus.ti.com/pdfs/mltry/obsolete.pdf
footprint J020D (DIP; 20 Leads; Row Spacing 7.62 mm; Pitch 2.54 mm)
3D model J020 (DIP; 20 Leads; Row Spacing 7.62 mm; Pitch 2.54 mm)
signal-integrity model SN54HC643J
pins: 1 DIR (in), 2 A1 (io), 3 A2 (io), 4 A3 (io), 5 A4 (io), 6 A5 (io), 7 A6 (io), 8 A7 (io), 9 A8 (io), 10 GND (power), 11 B8 (io), 12 B7 (io), 13 B6 (io), 14 B5 (io), 15 B4 (io), 16 B3 (io), 17 B2 (io), 18 B1 (io), 19 ~{OE} (in), 20 VCC (power)

## SN54HC645FK
designator U?
Octal Bus Transceiver with 3-State Outputs; Published: 8-Jun-2000; LatestRevisionDate: 17-Jul-2002; LatestRevisionNote: Re-released for DXP Platform.; DatasheetVersion: May-1997; PackageVersion: 1998; PackageReference: FK020; Publisher: Altium Limited; PackageDescription: Leadless Chip Carrier; 20 Terminals; Body 8.9 x 8.9 mm; ComponentLink1Description: Manufacturer Link; ComponentLink1URL: http://www.ti.com/
footprint FK020 (Leadless Chip Carrier; 20 Terminals; Body 8.9 x 8.9 mm)
signal-integrity model SN54HC645FK
pins: 1 DIR (in), 2 A1 (io), 3 A2 (io), 4 A3 (io), 5 A4 (io), 6 A5 (io), 7 A6 (io), 8 A7 (io), 9 A8 (io), 10 GND (power), 11 B8 (io), 12 B7 (io), 13 B6 (io), 14 B5 (io), 15 B4 (io), 16 B3 (io), 17 B2 (io), 18 B1 (io), 19 ~{OE} (in), 20 VCC (power)

## SN54HC645J
designator U?
Octal Bus Transceiver with 3-State Outputs; Published: 8-Jun-2000; LatestRevisionDate: 04-Mar-2005; LatestRevisionNote: Stylized 3D Model Added.; DatasheetVersion: May-1997; PackageVersion: Jun-1999; PackageReference: J020; Publisher: Altium Limited; PackageDescription: DIP; 20 Leads; Row Spacing 7.62 mm; Pitch 2.54 mm; ComponentLink1Description: Manufacturer Link; ComponentLink1URL: http://www.ti.com/; ComponentLink2Description: Datasheet; ComponentLink2URL: http://www-s.ti.com/sc/ds/sn74hc645.pdf
footprint J020 (DIP; 20 Leads; Row Spacing 7.62 mm; Pitch 2.54 mm)
3D model J020 (DIP; 20 Leads; Row Spacing 7.62 mm; Pitch 2.54 mm)
signal-integrity model SN54HC645J
pins: 1 DIR (in), 2 A1 (io), 3 A2 (io), 4 A3 (io), 5 A4 (io), 6 A5 (io), 7 A6 (io), 8 A7 (io), 9 A8 (io), 10 GND (power), 11 B8 (io), 12 B7 (io), 13 B6 (io), 14 B5 (io), 15 B4 (io), 16 B3 (io), 17 B2 (io), 18 B1 (io), 19 ~{OE} (in), 20 VCC (power)

## SN54HC646FK
designator U?
Octal Bus Transceiver and Register with 3-State Outputs; Note: Pins 1, 8, 15 and 22 are not connected; Published: 8-Jun-2000; LatestRevisionDate: 17-Jul-2002; LatestRevisionNote: Re-released for DXP Platform.; DatasheetVersion: May-1997; PackageVersion: 1998; PackageReference: FK028; Publisher: Altium Limited; PackageDescription: Leadless Chip Carrier; 28 Terminals; Body 11.4 x 11.4 mm; ComponentLink1Description: Manufacturer Link; ComponentLink1URL: http://www.ti.com/
footprint FK028 (Leadless Chip Carrier; 28 Terminals; Body 11.4 x 11.4 mm)
signal-integrity model SN54HC646FK
pins: 1 NC, 2 CLKAB (in), 3 SAB (in), 4 DIR (in), 5 A0 (io), 6 A1 (io), 7 A2 (io), 8 NC, 9 A3 (io), 10 A4 (io), 11 A5 (io), 12 A6 (io), 13 A7 (io), 14 GND (power), 15 NC, 16 B7 (io), 17 B6 (io), 18 B5 (io), 19 B4 (io), 20 B3 (io), 21 B2 (io), 22 NC, 23 B1 (io), 24 B0 (io), 25 ~{OE} (in), 26 SBA (in), 27 CLKBA (in), 28 VCC (power)

## SN54HC646JT
designator U?
Octal Bus Transceiver and Register with 3-State Outputs; Published: 8-Jun-2000; LatestRevisionDate: 04-Mar-2005; LatestRevisionNote: Stylized 3D Model Added.; DatasheetVersion: May-1997; PackageVersion: Jan-1997; PackageReference: JT024; Publisher: Altium Limited; PackageDescription: DIP; 24 Leads; Row Spacing 7.62 mm; Pitch 2.54 mm; Code_JEDEC: MS-001-AF; ComponentLink1Description: Manufacturer Link; ComponentLink1URL: http://www.ti.com/
footprint JT024 (DIP; 24 Leads; Row Spacing 7.62 mm; Pitch 2.54 mm)
3D model JT024 (DIP; 24 Leads; Row Spacing 7.62 mm; Pitch 2.54 mm)
signal-integrity model SN54HC646JT
pins: 1 CLKAB (in), 2 SAB (in), 3 DIR (in), 4 A0 (io), 5 A1 (io), 6 A2 (io), 7 A3 (io), 8 A4 (io), 9 A5 (io), 10 A6 (io), 11 A7 (io), 12 GND (power), 13 B7 (io), 14 B6 (io), 15 B5 (io), 16 B4 (io), 17 B3 (io), 18 B2 (io), 19 B1 (io), 20 B0 (io), 21 ~{OE} (in), 22 SBA (in), 23 CLKBA (in), 24 VCC (power)

## SN54HC648FK
designator U?
Octal Bus Transceiver and Register with 3-State Outputs; Note: Pins 1, 8, 15 and 22 are not connected; Published: 8-Jun-2000; LatestRevisionDate: 17-Jul-2002; LatestRevisionNote: Re-released for DXP Platform.; DatasheetVersion: Sep-1987; PackageVersion: 1998; PackageReference: FK028D; Publisher: Altium Limited; PackageDescription: Leadless Chip Carrier; 28 Terminals; Body 11.4 x 11.4 mm; ComponentLink1Description: Manufacturer Link; ComponentLink1URL: http://www.ti.com/
footprint FK028D (Leadless Chip Carrier; 28 Terminals; Body 11.4 x 11.4 mm)
signal-integrity model SN54HC648FK
pins: 2 CLKAB (in), 3 SAB (in), 4 DIR (in), 5 A1 (io), 6 A2 (io), 7 A3 (io), 9 A4 (io), 10 A5 (io), 11 A6 (io), 12 A7 (io), 13 A8 (io), 14 GND (power), 16 B8 (io), 17 B7 (io), 18 B6 (io), 19 B5 (io), 20 B4 (io), 21 B3 (io), 23 B2 (io), 24 B1 (io), 25 ~{OE} (in), 26 SBA (in), 27 CLKBA (in), 28 VCC (power)

## SN54HC648JT
designator U?
Octal Bus Transceiver and Register with 3-State Outputs; Published: 8-Jun-2000; LatestRevisionDate: 04-Mar-2005; LatestRevisionNote: Stylized 3D Model Added.; DatasheetVersion: Sep-1987; PackageVersion: Jan-1997; PackageReference: JT024D; Publisher: Altium Limited; PackageDescription: DIP; 24 Leads; Row Spacing 7.62 mm; Pitch 2.54 mm; Code_JEDEC: MS-001-AF; ComponentLink1Description: Manufacturer Link; ComponentLink1URL: http://www.ti.com/
footprint JT024D (DIP; 24 Leads; Row Spacing 7.62 mm; Pitch 2.54 mm)
3D model JT024 (DIP; 24 Leads; Row Spacing 7.62 mm; Pitch 2.54 mm)
signal-integrity model SN54HC648JT
pins: 1 CLKAB (in), 2 SAB (in), 3 DIR (in), 4 ~{A}0 (io), 5 ~{A}1 (io), 6 ~{A}2 (io), 7 ~{A}3 (io), 8 ~{A}4 (io), 9 ~{A}5 (io), 10 ~{A}6 (io), 11 ~{A}7 (io), 12 GND (power), 13 ~{B}7 (io), 14 ~{B}6 (io), 15 ~{B}5 (io), 16 ~{B}4 (io), 17 ~{B}3 (io), 18 ~{B}2 (io), 19 ~{B}1 (io), 20 ~{B}0 (io), 21 ~{OE} (in), 22 SBA (in), 23 CLKBA (in), 24 VCC (power)

## SN54HC651FK
designator U?
Octal Bus Transceiver and Register with 3-State Outputs; Note: Pins 1, 8, 15 and 22 are not connected; Published: 8-Jun-2000; LatestRevisionDate: 17-Jul-2002; LatestRevisionNote: Re-released for DXP Platform.; DatasheetVersion: Jun-1989; PackageVersion: 1998; PackageReference: FK028D; Publisher: Altium Limited; PackageDescription: Leadless Chip Carrier; 28 Terminals; Body 11.4 x 11.4 mm; ComponentLink1Description: Manufacturer Link; ComponentLink1URL: http://www.ti.com/
footprint FK028D (Leadless Chip Carrier; 28 Terminals; Body 11.4 x 11.4 mm)
signal-integrity model SN54HC651FK
pins: 2 CLKAB (in), 3 SAB (in), 4 OEAB (in), 5 A1 (io), 6 A2 (io), 7 A3 (io), 9 A4 (io), 10 A5 (io), 11 A6 (io), 12 A7 (io), 13 A8 (io), 14 GND (power), 16 B8 (io), 17 B7 (io), 18 B6 (io), 19 B5 (io), 20 B4 (io), 21 B3 (io), 23 B2 (io), 24 B1 (io), 25 ~{OEBA} (in), 26 SBA (in), 27 CLKBA (in), 28 VCC (power)

## SN54HC651JT
designator U?
Octal Bus Transceiver and Register with 3-State Outputs; Published: 8-Jun-2000; LatestRevisionDate: 04-Mar-2005; LatestRevisionNote: Stylized 3D Model Added.; DatasheetVersion: Jun-1989; PackageVersion: Jan-1997; PackageReference: JT024D; Publisher: Altium Limited; PackageDescription: DIP; 24 Leads; Row Spacing 7.62 mm; Pitch 2.54 mm; Code_JEDEC: MS-001-AF; ComponentLink1Description: Manufacturer Link; ComponentLink1URL: http://www.ti.com/
footprint JT024D (DIP; 24 Leads; Row Spacing 7.62 mm; Pitch 2.54 mm)
3D model JT024 (DIP; 24 Leads; Row Spacing 7.62 mm; Pitch 2.54 mm)
signal-integrity model SN54HC651JT
pins: 1 CLKAB (in), 2 SAB (in), 3 OEAB (in), 4 A1 (io), 5 A2 (io), 6 A3 (io), 7 A4 (io), 8 A5 (io), 9 A6 (io), 10 A7 (io), 11 A8 (io), 12 GND (power), 13 B8 (io), 14 B7 (io), 15 B6 (io), 16 B5 (io), 17 B4 (io), 18 B3 (io), 19 B2 (io), 20 B1 (io), 21 ~{OEBA} (in), 22 SBA (in), 23 CLKBA (in), 24 VCC (power)

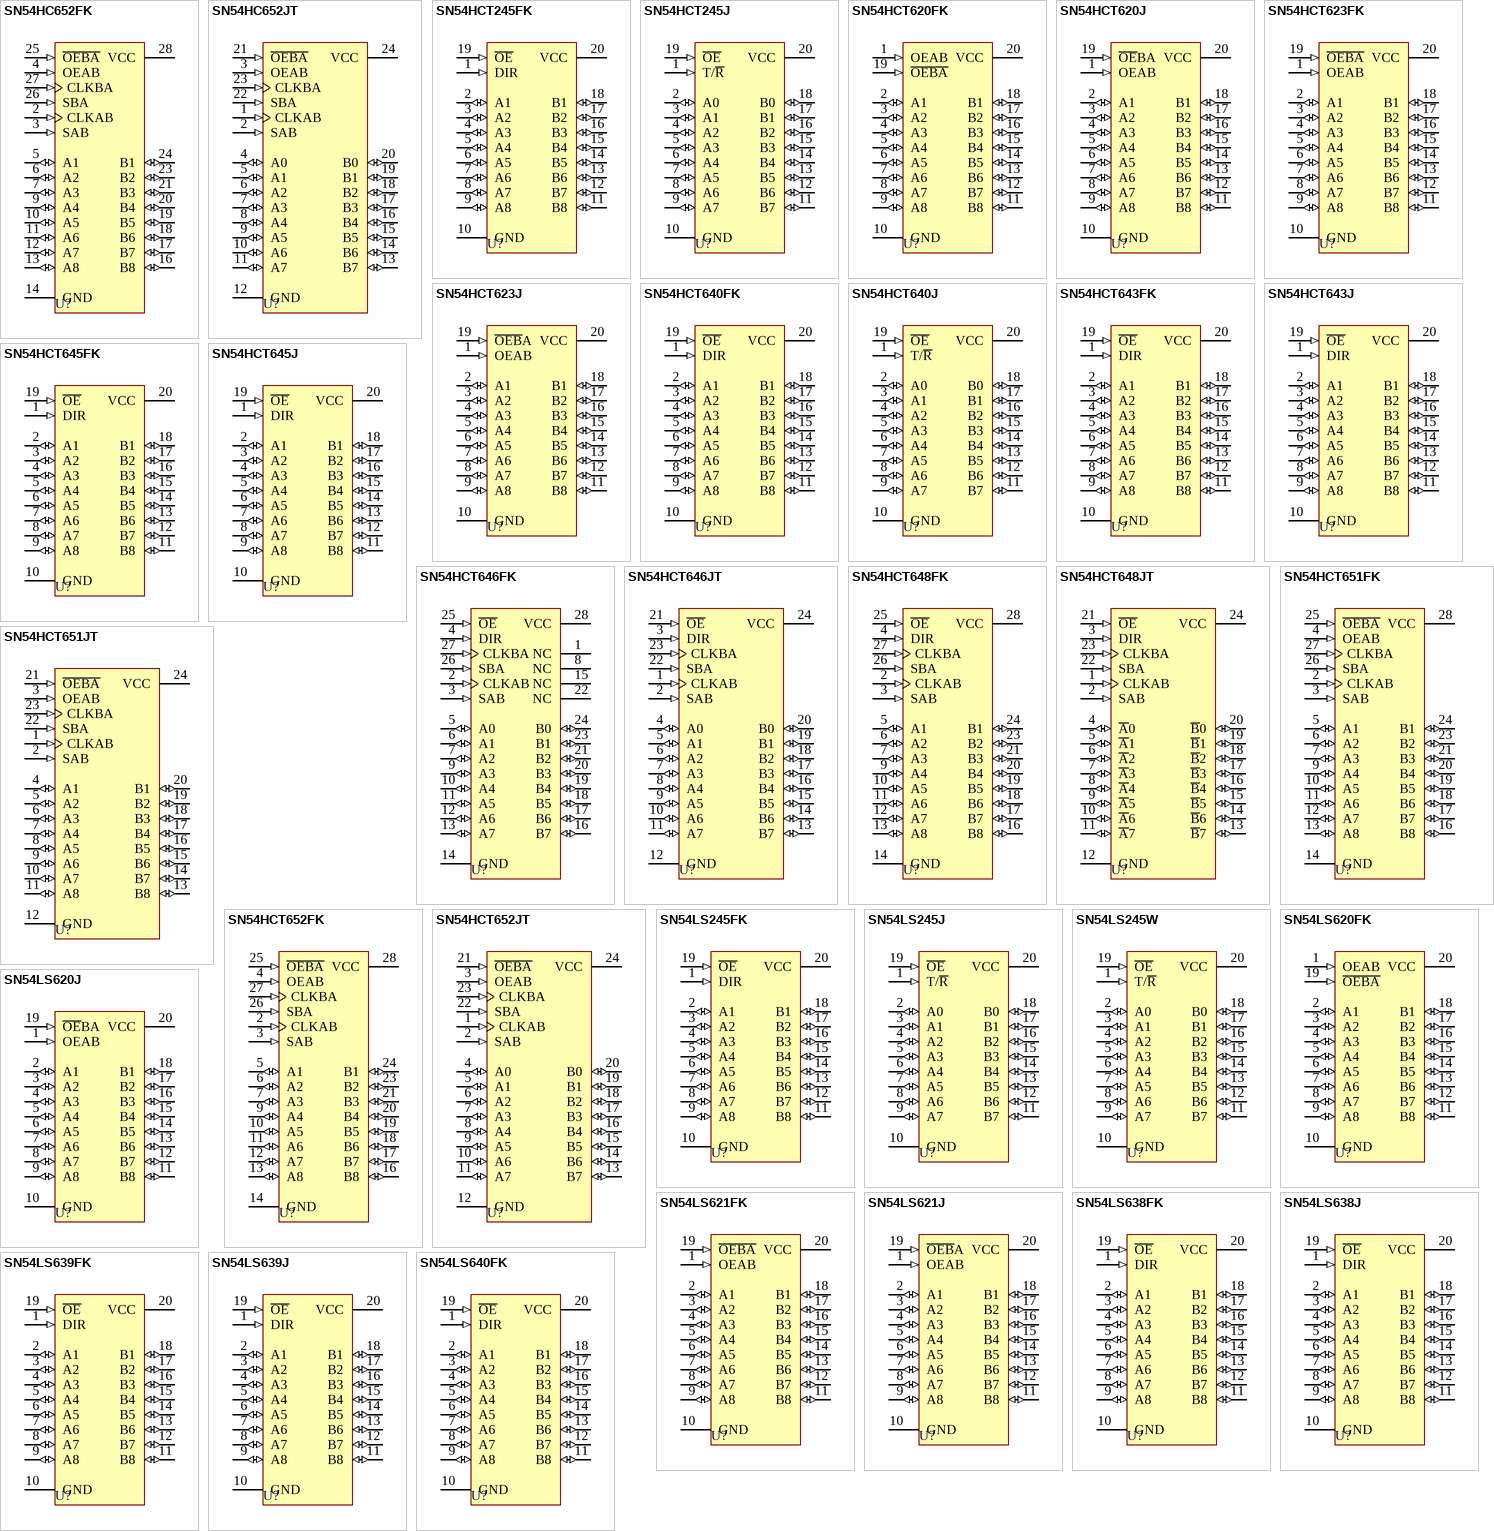
[diagram p8: symbols SN54HC652FK to SN54LS640FK]

## SN54HC652FK
designator U?
Octal Bus Transceiver and Register with 3-State Outputs; Note: Pins 1, 8, 15 and 22 are not connected; Published: 8-Jun-2000; LatestRevisionDate: 17-Jul-2002; LatestRevisionNote: Re-released for DXP Platform.; DatasheetVersion: May-1997; PackageVersion: 1998; PackageReference: FK028; Publisher: Altium Limited; PackageDescription: Leadless Chip Carrier; 28 Terminals; Body 11.4 x 11.4 mm; ComponentLink1Description: Manufacturer Link; ComponentLink1URL: http://www.ti.com/
footprint FK028 (Leadless Chip Carrier; 28 Terminals; Body 11.4 x 11.4 mm)
signal-integrity model SN54HC652FK
pins: 2 CLKAB (in), 3 SAB (in), 4 OEAB (in), 5 A1 (io), 6 A2 (io), 7 A3 (io), 9 A4 (io), 10 A5 (io), 11 A6 (io), 12 A7 (io), 13 A8 (io), 14 GND (power), 16 B8 (io), 17 B7 (io), 18 B6 (io), 19 B5 (io), 20 B4 (io), 21 B3 (io), 23 B2 (io), 24 B1 (io), 25 ~{OEBA} (in), 26 SBA (in), 27 CLKBA (in), 28 VCC (power)

## SN54HC652JT
designator U?
Octal Bus Transceiver and Register with 3-State Outputs; Published: 8-Jun-2000; LatestRevisionDate: 04-Mar-2005; LatestRevisionNote: Stylized 3D Model Added.; DatasheetVersion: May-1997; PackageVersion: Jan-1997; PackageReference: JT024; Publisher: Altium Limited; PackageDescription: DIP; 24 Leads; Row Spacing 7.62 mm; Pitch 2.54 mm; Code_JEDEC: MS-001-AF; ComponentLink1Description: Manufacturer Link; ComponentLink1URL: http://www.ti.com/
footprint JT024 (DIP; 24 Leads; Row Spacing 7.62 mm; Pitch 2.54 mm)
3D model JT024 (DIP; 24 Leads; Row Spacing 7.62 mm; Pitch 2.54 mm)
signal-integrity model SN54HC652JT
pins: 1 CLKAB (in), 2 SAB (in), 3 OEAB (in), 4 A0 (io), 5 A1 (io), 6 A2 (io), 7 A3 (io), 8 A4 (io), 9 A5 (io), 10 A6 (io), 11 A7 (io), 12 GND (power), 13 B7 (io), 14 B6 (io), 15 B5 (io), 16 B4 (io), 17 B3 (io), 18 B2 (io), 19 B1 (io), 20 B0 (io), 21 ~{OEBA} (in), 22 SBA (in), 23 CLKBA (in), 24 VCC (power)

## SN54HCT245FK
designator U?
Octal Bus Transceiver with 3-State Outputs; Published: 8-Jun-2000; LatestRevisionDate: 17-Jul-2002; LatestRevisionNote: Re-released for DXP Platform.; DatasheetVersion: May-1997; PackageVersion: 1998; PackageReference: FK020; Publisher: Altium Limited; PackageDescription: Leadless Chip Carrier; 20 Terminals; Body 8.9 x 8.9 mm; ComponentLink1Description: Manufacturer Link; ComponentLink1URL: http://www.ti.com/
footprint FK020 (Leadless Chip Carrier; 20 Terminals; Body 8.9 x 8.9 mm)
signal-integrity model SN54HCT245FK
pins: 1 DIR (in), 2 A1 (io), 3 A2 (io), 4 A3 (io), 5 A4 (io), 6 A5 (io), 7 A6 (io), 8 A7 (io), 9 A8 (io), 10 GND (power), 11 B8 (io), 12 B7 (io), 13 B6 (io), 14 B5 (io), 15 B4 (io), 16 B3 (io), 17 B2 (io), 18 B1 (io), 19 ~{OE} (in), 20 VCC (power)

## SN54HCT245J
designator U?
Octal Bus Transceiver with 3-State Outputs; Published: 8-Jun-2000; LatestRevisionDate: 04-Mar-2005; LatestRevisionNote: Stylized 3D Model Added.; DatasheetVersion: May-1997; PackageVersion: Jun-1999; PackageReference: J020; Publisher: Altium Limited; PackageDescription: DIP; 20 Leads; Row Spacing 7.62 mm; Pitch 2.54 mm; ComponentLink1Description: Manufacturer Link; ComponentLink1URL: http://www.ti.com/; ComponentLink2Description: Datasheet; ComponentLink2URL: http://www-s.ti.com/sc/ds/sn74hct245.pdf
footprint J020 (DIP; 20 Leads; Row Spacing 7.62 mm; Pitch 2.54 mm)
3D model J020 (DIP; 20 Leads; Row Spacing 7.62 mm; Pitch 2.54 mm)
signal-integrity model SN54HCT245J
pins: 1 T/~{R} (in), 2 A0 (io), 3 A1 (io), 4 A2 (io), 5 A3 (io), 6 A4 (io), 7 A5 (io), 8 A6 (io), 9 A7 (io), 10 GND (power), 11 B7 (io), 12 B6 (io), 13 B5 (io), 14 B4 (io), 15 B3 (io), 16 B2 (io), 17 B1 (io), 18 B0 (io), 19 ~{OE} (in), 20 VCC (power)

## SN54HCT620FK
designator U?
Octal Bus Transceiver with 3-State Outputs; Published: 8-Jun-2000; LatestRevisionDate: 17-Jul-2002; LatestRevisionNote: Re-released for DXP Platform.; DatasheetVersion: Sep-1987; PackageVersion: 1998; PackageReference: FK020D; Publisher: Altium Limited; PackageDescription: Leadless Chip Carrier; 20 Terminals; Body 8.9 x 8.9 mm; ComponentLink1Description: Manufacturer Link; ComponentLink1URL: http://www.ti.com/
footprint FK020D (Leadless Chip Carrier; 20 Terminals; Body 8.9 x 8.9 mm)
signal-integrity model SN54HCT620FK
pins: 1 OEAB (in), 2 A1 (io), 3 A2 (io), 4 A3 (io), 5 A4 (io), 6 A5 (io), 7 A6 (io), 8 A7 (io), 9 A8 (io), 10 GND (power), 11 B8 (io), 12 B7 (io), 13 B6 (io), 14 B5 (io), 15 B4 (io), 16 B3 (io), 17 B2 (io), 18 B1 (io), 19 ~{OEBA} (in), 20 VCC (power)

## SN54HCT620J
designator U?
Octal Bus Transceiver with 3-State Outputs; Published: 8-Jun-2000; LatestRevisionDate: 04-Mar-2005; LatestRevisionNote: Stylized 3D Model Added.; DatasheetVersion: Sep-1987; PackageVersion: Jun-1999; PackageReference: J020D; Publisher: Altium Limited; PackageDescription: DIP; 20 Leads; Row Spacing 7.62 mm; Pitch 2.54 mm; ComponentLink1Description: Manufacturer Link; ComponentLink1URL: http://www.ti.com/
footprint J020D (DIP; 20 Leads; Row Spacing 7.62 mm; Pitch 2.54 mm)
3D model J020 (DIP; 20 Leads; Row Spacing 7.62 mm; Pitch 2.54 mm)
signal-integrity model SN54HCT620J
pins: 1 OEAB (in), 2 A1 (io), 3 A2 (io), 4 A3 (io), 5 A4 (io), 6 A5 (io), 7 A6 (io), 8 A7 (io), 9 A8 (io), 10 GND (power), 11 B8 (io), 12 B7 (io), 13 B6 (io), 14 B5 (io), 15 B4 (io), 16 B3 (io), 17 B2 (io), 18 B1 (io), 19 ~{OE}BA (in), 20 VCC (power)

## SN54HCT623FK
designator U?
Octal Bus Transceiver with 3-State Outputs; Published: 8-Jun-2000; LatestRevisionDate: 17-Jul-2002; LatestRevisionNote: Re-released for DXP Platform.; DatasheetVersion: May-1997; PackageVersion: 1998; PackageReference: FK020; Publisher: Altium Limited; PackageDescription: Leadless Chip Carrier; 20 Terminals; Body 8.9 x 8.9 mm; ComponentLink1Description: Manufacturer Link; ComponentLink1URL: http://www.ti.com/
footprint FK020 (Leadless Chip Carrier; 20 Terminals; Body 8.9 x 8.9 mm)
signal-integrity model SN54HCT623FK
pins: 1 OEAB (in), 2 A1 (io), 3 A2 (io), 4 A3 (io), 5 A4 (io), 6 A5 (io), 7 A6 (io), 8 A7 (io), 9 A8 (io), 10 GND (power), 11 B8 (io), 12 B7 (io), 13 B6 (io), 14 B5 (io), 15 B4 (io), 16 B3 (io), 17 B2 (io), 18 B1 (io), 19 ~{OEBA} (in), 20 VCC (power)

## SN54HCT623J
designator U?
Octal Bus Transceiver with 3-State Outputs; Published: 8-Jun-2000; LatestRevisionDate: 04-Mar-2005; LatestRevisionNote: Stylized 3D Model Added.; DatasheetVersion: May-1997; PackageVersion: Jun-1999; PackageReference: J020; Publisher: Altium Limited; PackageDescription: DIP; 20 Leads; Row Spacing 7.62 mm; Pitch 2.54 mm; ComponentLink1Description: Manufacturer Link; ComponentLink1URL: http://www.ti.com/
footprint J020 (DIP; 20 Leads; Row Spacing 7.62 mm; Pitch 2.54 mm)
3D model J020 (DIP; 20 Leads; Row Spacing 7.62 mm; Pitch 2.54 mm)
signal-integrity model SN54HCT623J
pins: 1 OEAB (in), 2 A1 (io), 3 A2 (io), 4 A3 (io), 5 A4 (io), 6 A5 (io), 7 A6 (io), 8 A7 (io), 9 A8 (io), 10 GND (power), 11 B8 (io), 12 B7 (io), 13 B6 (io), 14 B5 (io), 15 B4 (io), 16 B3 (io), 17 B2 (io), 18 B1 (io), 19 ~{OEB}A (in), 20 VCC (power)

## SN54HCT640FK
designator U?
Octal Bus Transceiver with 3-State Outputs; Published: 8-Jun-2000; LatestRevisionDate: 17-Jul-2002; LatestRevisionNote: Re-released for DXP Platform.; DatasheetVersion: Sep-1987; PackageVersion: 1998; PackageReference: FK020D; Publisher: Altium Limited; PackageDescription: Leadless Chip Carrier; 20 Terminals; Body 8.9 x 8.9 mm; ComponentLink1Description: Manufacturer Link; ComponentLink1URL: http://www.ti.com/
footprint FK020D (Leadless Chip Carrier; 20 Terminals; Body 8.9 x 8.9 mm)
signal-integrity model SN54HCT640FK
pins: 1 DIR (in), 2 A1 (io), 3 A2 (io), 4 A3 (io), 5 A4 (io), 6 A5 (io), 7 A6 (io), 8 A7 (io), 9 A8 (io), 10 GND (power), 11 B8 (io), 12 B7 (io), 13 B6 (io), 14 B5 (io), 15 B4 (io), 16 B3 (io), 17 B2 (io), 18 B1 (io), 19 ~{OE} (in), 20 VCC (power)

## SN54HCT640J
designator U?
Octal Bus Transceiver with 3-State Outputs; Published: 8-Jun-2000; LatestRevisionDate: 04-Mar-2005; LatestRevisionNote: Stylized 3D Model Added.; DatasheetVersion: Sep-1987; PackageVersion: Jun-1999; PackageReference: J020D; Publisher: Altium Limited; PackageDescription: DIP; 20 Leads; Row Spacing 7.62 mm; Pitch 2.54 mm; ComponentLink1Description: Manufacturer Link; ComponentLink1URL: http://www.ti.com/
footprint J020D (DIP; 20 Leads; Row Spacing 7.62 mm; Pitch 2.54 mm)
3D model J020 (DIP; 20 Leads; Row Spacing 7.62 mm; Pitch 2.54 mm)
signal-integrity model SN54HCT640J
pins: 1 T/~{R} (in), 2 A0 (io), 3 A1 (io), 4 A2 (io), 5 A3 (io), 6 A4 (io), 7 A5 (io), 8 A6 (io), 9 A7 (io), 10 GND (power), 11 B7 (io), 12 B6 (io), 13 B5 (io), 14 B4 (io), 15 B3 (io), 16 B2 (io), 17 B1 (io), 18 B0 (io), 19 ~{OE} (in), 20 VCC (power)

## SN54HCT643FK
designator U?
Octal Bus Transceiver with 3-State Outputs; Published: 8-Jun-2000; LatestRevisionDate: 17-Jul-2002; LatestRevisionNote: Re-released for DXP Platform.; DatasheetVersion: Sep-1987; PackageVersion: 1998; PackageReference: FK020D; Publisher: Altium Limited; PackageDescription: Leadless Chip Carrier; 20 Terminals; Body 8.9 x 8.9 mm; ComponentLink1Description: Manufacturer Link; ComponentLink1URL: http://www.ti.com/
footprint FK020D (Leadless Chip Carrier; 20 Terminals; Body 8.9 x 8.9 mm)
signal-integrity model SN54HCT643FK
pins: 1 DIR (in), 2 A1 (io), 3 A2 (io), 4 A3 (io), 5 A4 (io), 6 A5 (io), 7 A6 (io), 8 A7 (io), 9 A8 (io), 10 GND (power), 11 B8 (io), 12 B7 (io), 13 B6 (io), 14 B5 (io), 15 B4 (io), 16 B3 (io), 17 B2 (io), 18 B1 (io), 19 ~{OE} (in), 20 VCC (power)

## SN54HCT643J
designator U?
Octal Bus Transceiver with 3-State Outputs; Published: 8-Jun-2000; LatestRevisionDate: 04-Mar-2005; LatestRevisionNote: Stylized 3D Model Added.; DatasheetVersion: Sep-1987; PackageVersion: Jun-1999; PackageReference: J020D; Publisher: Altium Limited; PackageDescription: DIP; 20 Leads; Row Spacing 7.62 mm; Pitch 2.54 mm; ComponentLink1Description: Manufacturer Link; ComponentLink1URL: http://www.ti.com/
footprint J020D (DIP; 20 Leads; Row Spacing 7.62 mm; Pitch 2.54 mm)
3D model J020 (DIP; 20 Leads; Row Spacing 7.62 mm; Pitch 2.54 mm)
signal-integrity model SN54HCT643J
pins: 1 DIR (in), 2 A1 (io), 3 A2 (io), 4 A3 (io), 5 A4 (io), 6 A5 (io), 7 A6 (io), 8 A7 (io), 9 A8 (io), 10 GND (power), 11 B8 (io), 12 B7 (io), 13 B6 (io), 14 B5 (io), 15 B4 (io), 16 B3 (io), 17 B2 (io), 18 B1 (io), 19 ~{OE} (in), 20 VCC (power)

## SN54HCT645FK
designator U?
Octal Bus Transceiver with 3-State Outputs; Published: 8-Jun-2000; LatestRevisionDate: 17-Jul-2002; LatestRevisionNote: Re-released for DXP Platform.; DatasheetVersion: May-1997; PackageVersion: 1998; PackageReference: FK020; Publisher: Altium Limited; PackageDescription: Leadless Chip Carrier; 20 Terminals; Body 8.9 x 8.9 mm; ComponentLink1Description: Manufacturer Link; ComponentLink1URL: http://www.ti.com/; ComponentLink2Description: Datasheet; ComponentLink2URL: http://www-s.ti.com/sc/ds/sn74hct645.pdf
footprint FK020 (Leadless Chip Carrier; 20 Terminals; Body 8.9 x 8.9 mm)
signal-integrity model SN54HCT645FK
pins: 1 DIR (in), 2 A1 (io), 3 A2 (io), 4 A3 (io), 5 A4 (io), 6 A5 (io), 7 A6 (io), 8 A7 (io), 9 A8 (io), 10 GND (power), 11 B8 (io), 12 B7 (io), 13 B6 (io), 14 B5 (io), 15 B4 (io), 16 B3 (io), 17 B2 (io), 18 B1 (io), 19 ~{OE} (in), 20 VCC (power)

## SN54HCT645J
designator U?
Octal Bus Transceiver with 3-State Outputs; Published: 8-Jun-2000; LatestRevisionDate: 04-Mar-2005; LatestRevisionNote: Stylized 3D Model Added.; DatasheetVersion: May-1997; PackageVersion: Jun-1999; PackageReference: J020; Publisher: Altium Limited; PackageDescription: DIP; 20 Leads; Row Spacing 7.62 mm; Pitch 2.54 mm; ComponentLink1Description: Manufacturer Link; ComponentLink1URL: http://www.ti.com/; ComponentLink2Description: Datasheet; ComponentLink2URL: http://www-s.ti.com/sc/ds/sn74hct645.pdf
footprint J020 (DIP; 20 Leads; Row Spacing 7.62 mm; Pitch 2.54 mm)
3D model J020 (DIP; 20 Leads; Row Spacing 7.62 mm; Pitch 2.54 mm)
signal-integrity model SN54HCT645J
pins: 1 DIR (in), 2 A1 (io), 3 A2 (io), 4 A3 (io), 5 A4 (io), 6 A5 (io), 7 A6 (io), 8 A7 (io), 9 A8 (io), 10 GND (power), 11 B8 (io), 12 B7 (io), 13 B6 (io), 14 B5 (io), 15 B4 (io), 16 B3 (io), 17 B2 (io), 18 B1 (io), 19 ~{OE} (in), 20 VCC (power)